# Altium footprint library 2021-03-27_07-08-52.PcbLib: 3 footprints
Each footprint in its own frame and in the unit in brackets; x right, y up, seen from the top. Pads: shape width x height; smd on the part's side, far side on the other; paste and mask are expansions set on the pad; w line width, h text height; cw(c..) or ccw(c..) is an arc to the next point about the centre after c.
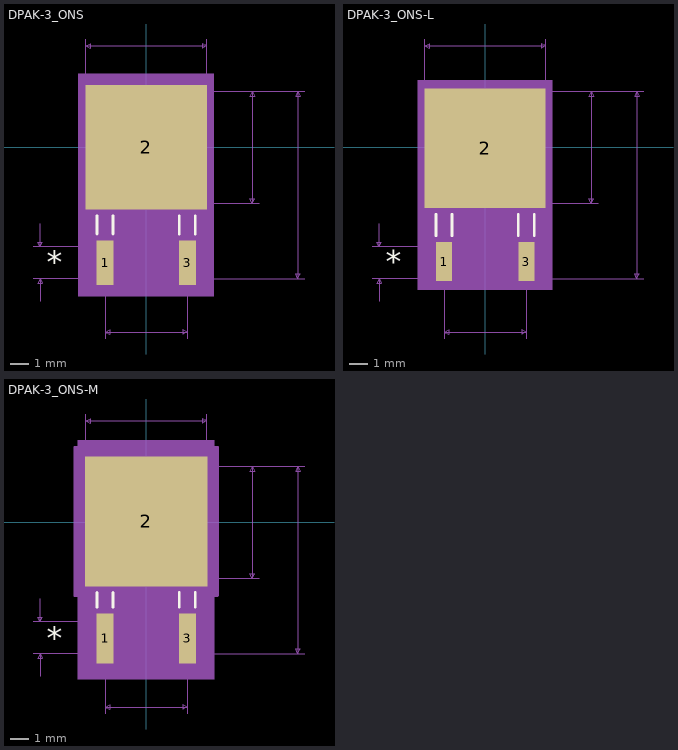
[diagram p0: the footprints below, top view; thin cyan lines are the x and y axes]

## DPAK-3_ONS [mil]
pads (3):
  rect 36.97x97.56 smd paste+0 mask+0: 1(-90.16,-252.5) 3(90.16,-252.5)
  rect 267x273 smd paste+0 mask+0: 2(0,0)
Top Overlay:
  lines w6: -107.66,-189.72 -107.66,-149.6 ; -72.66,-189.72 -72.66,-149.6 ; 72.66,-189.72 72.66,-149.6 ; 107.66,-189.72 107.66,-149.6
  text "*" at -217.81,-277.5 h50
Mechanical 5:
  region: -148.5,161.5 148.5,161.5 148.5,-326.28 -148.5,-326.28
Mechanical 7:
  lines w1: -247.5,-287.5 0,-287.5 347.5,-287.5 ; -247.5,-217.5 0,-217.5 ; -232.5,-337.5 -232.5,-287.5 ; -232.5,-167.5 -232.5,-217.5 ; -132.5,0 -132.5,237.5 ; -90.16,-420 -90.16,-205 ; 0,-122.5 247.5,-122.5 ; 90.16,-420 90.16,-205 ; 132.5,0 132.5,237.5 ; 247.5,122.5 0,122.5 347.5,122.5 ; -232.5,-287.5 -237.5,-297.5 -227.5,-297.5 -232.5,-287.5 ; -232.5,-217.5 -237.5,-207.5 -227.5,-207.5 -232.5,-217.5 ; -132.5,222.5 132.5,222.5 ; -132.5,222.5 -122.5,227.5 -122.5,217.5 -132.5,222.5 ; -90.16,-405 90.16,-405 ; -90.16,-405 -80.16,-400 -80.16,-410 -90.16,-405 ; 90.16,-405 80.16,-400 80.16,-410 90.16,-405 ; 132.5,222.5 122.5,227.5 122.5,217.5 132.5,222.5 ; 232.5,-122.5 232.5,122.5 ; 232.5,-122.5 227.5,-112.5 237.5,-112.5 232.5,-122.5 ; 232.5,122.5 227.5,112.5 237.5,112.5 232.5,122.5 ; 332.5,-287.5 332.5,122.5 ; 332.5,-287.5 327.5,-277.5 337.5,-277.5 332.5,-287.5 ; 332.5,122.5 327.5,112.5 337.5,112.5 332.5,122.5
  text "Default Padstyle: r94_248" at -312.5,-637.5 h50
  text "Large Padstyle: r678_693" at -300,-712.5 h50
  text "Alt 1 Padstyle: b152_229h76" at -337.5,-787.5 h50
  text "Alt 2 Padstyle: b229_152h76" at -337.5,-862.5 h50
  text "0.245in/6.223mm" at 252.5,-12.5 h25
  text "0.265in/6.731mm" at -93.75,242.5 h25
  text "0.41in/10.414mm" at 352.5,-142.5 h25
  text "0.07in/1.778mm" at -427.5,-265 h25
  text "0.18in/4.58mm" at -81.25,-450 h25
Mechanical 13:
  lines w1: -16.5,-122.5 -16.5,-155.5 16.5,-155.5 16.5,-122.5 ; -132.5,-122.5 132.5,-122.5 132.5,122.5 -132.5,122.5 -132.5,-122.5 ; -107.66,-287.5 -107.66,-122.5 -72.66,-122.5 -72.66,-287.5 -107.66,-287.5 ; 72.66,-287.5 72.66,-122.5 107.66,-122.5 107.66,-287.5 72.66,-287.5
  text "*" at -102.66,-137.5 h50
Mechanical 15:
  region: -117.66,-146.5 -144.5,-146.5 -144.5,146.5 144.5,146.5 144.5,-146.5 117.66,-146.5 117.66,-311.28 62.66,-311.28 62.66,-213.72 -62.66,-213.72 -62.66,-311.28 -117.66,-311.28
  lines w6: -144.5,-146.5 -144.5,146.5 144.5,146.5 144.5,-146.5 117.66,-146.5 117.66,-311.28 62.66,-311.28 62.66,-213.72 -62.66,-213.72 -62.66,-311.28 -117.66,-311.28 -117.66,-146.5 -144.5,-146.5
3D body: height 10, standoff 0, extent 0,0 10,10

## DPAK-3_ONS-L [mil]
pads (3):
  rect 35x85.75 smd paste+0 mask+0: 1(-90.16,-250.53) 3(90.16,-250.53)
  rect 265x261 smd paste+0 mask+0: 2(0,-2)
Top Overlay:
  lines w6: -107.66,-193.66 -107.66,-146.5 ; -72.66,-193.66 -72.66,-146.5 ; 72.66,-193.66 72.66,-146.5 ; 107.66,-193.66 107.66,-146.5
  text "*" at -217.81,-275.53 h50
Mechanical 5:
  region: -147.5,147.5 147.5,147.5 147.5,-312.41 -147.5,-312.41
Mechanical 7:
  lines w1: -247.5,-287.5 0,-287.5 347.5,-287.5 ; -247.5,-217.5 0,-217.5 ; -232.5,-337.5 -232.5,-287.5 ; -232.5,-167.5 -232.5,-217.5 ; -132.5,0 -132.5,237.5 ; -90.16,-420 -90.16,-205 ; 0,-122.5 247.5,-122.5 ; 90.16,-420 90.16,-205 ; 132.5,0 132.5,237.5 ; 247.5,122.5 0,122.5 347.5,122.5 ; -232.5,-287.5 -237.5,-297.5 -227.5,-297.5 -232.5,-287.5 ; -232.5,-217.5 -237.5,-207.5 -227.5,-207.5 -232.5,-217.5 ; -132.5,222.5 132.5,222.5 ; -132.5,222.5 -122.5,227.5 -122.5,217.5 -132.5,222.5 ; -90.16,-405 90.16,-405 ; -90.16,-405 -80.16,-400 -80.16,-410 -90.16,-405 ; 90.16,-405 80.16,-400 80.16,-410 90.16,-405 ; 132.5,222.5 122.5,227.5 122.5,217.5 132.5,222.5 ; 232.5,-122.5 232.5,122.5 ; 232.5,-122.5 227.5,-112.5 237.5,-112.5 232.5,-122.5 ; 232.5,122.5 227.5,112.5 237.5,112.5 232.5,122.5 ; 332.5,-287.5 332.5,122.5 ; 332.5,-287.5 327.5,-277.5 337.5,-277.5 332.5,-287.5 ; 332.5,122.5 327.5,112.5 337.5,112.5 332.5,122.5
  text "Default Padstyle: r89_218" at -312.5,-637.5 h50
  text "Large Padstyle: r673_663" at -300,-712.5 h50
  text "Alt 1 Padstyle: b152_229h76" at -337.5,-787.5 h50
  text "Alt 2 Padstyle: b229_152h76" at -337.5,-862.5 h50
  text "0.245in/6.223mm" at 252.5,-12.5 h25
  text "0.265in/6.731mm" at -93.75,242.5 h25
  text "0.41in/10.414mm" at 352.5,-140.53 h25
  text "0.07in/1.778mm" at -427.5,-265 h25
  text "0.18in/4.58mm" at -81.25,-450 h25
Mechanical 13:
  lines w1: -16.5,-122.5 -16.5,-155.5 16.5,-155.5 16.5,-122.5 ; -132.5,-122.5 132.5,-122.5 132.5,122.5 -132.5,122.5 -132.5,-122.5 ; -107.66,-287.5 -107.66,-122.5 -72.66,-122.5 -72.66,-287.5 -107.66,-287.5 ; 72.66,-287.5 72.66,-122.5 107.66,-122.5 107.66,-287.5 72.66,-287.5
  text "*" at -102.66,-137.5 h50
Mechanical 15:
  region: -111.66,-136.5 -136.5,-136.5 -136.5,132.5 136.5,132.5 136.5,-136.5 111.66,-136.5 111.66,-297.41 68.66,-297.41 68.66,-211.66 -68.66,-211.66 -68.66,-297.41 -111.66,-297.41
  lines w6: -136.5,-136.5 -136.5,132.5 136.5,132.5 136.5,-136.5 111.66,-136.5 111.66,-297.41 68.66,-297.41 68.66,-211.66 -68.66,-211.66 -68.66,-297.41 -111.66,-297.41 -111.66,-136.5 -136.5,-136.5
3D body: height 10, standoff 0, extent 0,0 10,10

## DPAK-3_ONS-M [mil]
pads (3):
  rect 36.97x109.37 smd paste+0 mask+0: 1(-90.16,-254.47) 3(90.16,-254.47)
  rect 269x285 smd paste+0 mask+0: 2(0,2)
Top Overlay:
  lines w6: -107.66,-185.78 -107.66,-153.6 ; -72.66,-185.78 -72.66,-153.6 ; 72.66,-185.78 72.66,-153.6 ; 107.66,-185.78 107.66,-153.6
  text "*" at -217.81,-279.47 h50
Mechanical 5:
  region: -149.5,179.5 149.5,179.5 149.5,-344.15 -149.5,-344.15
Mechanical 7:
  lines w1: -247.5,-287.5 0,-287.5 347.5,-287.5 ; -247.5,-217.5 0,-217.5 ; -232.5,-337.5 -232.5,-287.5 ; -232.5,-167.5 -232.5,-217.5 ; -132.5,0 -132.5,237.5 ; -90.16,-420 -90.16,-205 ; 0,-122.5 247.5,-122.5 ; 90.16,-420 90.16,-205 ; 132.5,0 132.5,237.5 ; 247.5,122.5 0,122.5 347.5,122.5 ; -232.5,-287.5 -237.5,-297.5 -227.5,-297.5 -232.5,-287.5 ; -232.5,-217.5 -237.5,-207.5 -227.5,-207.5 -232.5,-217.5 ; -132.5,222.5 132.5,222.5 ; -132.5,222.5 -122.5,227.5 -122.5,217.5 -132.5,222.5 ; -90.16,-405 90.16,-405 ; -90.16,-405 -80.16,-400 -80.16,-410 -90.16,-405 ; 90.16,-405 80.16,-400 80.16,-410 90.16,-405 ; 132.5,222.5 122.5,227.5 122.5,217.5 132.5,222.5 ; 232.5,-122.5 232.5,122.5 ; 232.5,-122.5 227.5,-112.5 237.5,-112.5 232.5,-122.5 ; 232.5,122.5 227.5,112.5 237.5,112.5 232.5,122.5 ; 332.5,-287.5 332.5,122.5 ; 332.5,-287.5 327.5,-277.5 337.5,-277.5 332.5,-287.5 ; 332.5,122.5 327.5,112.5 337.5,112.5 332.5,122.5
  text "Default Padstyle: r94_278" at -312.5,-637.5 h50
  text "Large Padstyle: r683_724" at -300,-712.5 h50
  text "Alt 1 Padstyle: b152_229h76" at -337.5,-787.5 h50
  text "Alt 2 Padstyle: b229_152h76" at -337.5,-862.5 h50
  text "0.245in/6.223mm" at 252.5,-12.5 h25
  text "0.265in/6.731mm" at -93.75,242.5 h25
  text "0.41in/10.414mm" at 352.5,-144.47 h25
  text "0.07in/1.778mm" at -427.5,-265 h25
  text "0.18in/4.58mm" at -81.25,-450 h25
Mechanical 13:
  lines w1: -16.5,-122.5 -16.5,-155.5 16.5,-155.5 16.5,-122.5 ; -132.5,-122.5 132.5,-122.5 132.5,122.5 -132.5,122.5 -132.5,-122.5 ; -107.66,-287.5 -107.66,-122.5 -72.66,-122.5 -72.66,-287.5 -107.66,-287.5 ; 72.66,-287.5 72.66,-122.5 107.66,-122.5 107.66,-287.5 72.66,-287.5
  text "*" at -102.66,-137.5 h50
Mechanical 15:
  region: -127.66,-160.5 -156.5,-160.5 -156.5,164.5 156.5,164.5 156.5,-160.5 127.66,-160.5 127.66,-329.15 52.66,-329.15 52.66,-219.78 -52.66,-219.78 -52.66,-329.15 -127.66,-329.15
  lines w6: -156.5,-160.5 -156.5,164.5 156.5,164.5 156.5,-160.5 127.66,-160.5 127.66,-329.15 52.66,-329.15 52.66,-219.78 -52.66,-219.78 -52.66,-329.15 -127.66,-329.15 -127.66,-160.5 -156.5,-160.5
3D body: height 10, standoff 0, extent 0,0 10,10